# Altium footprint library multimodal.PcbLib: 69 footprints (part 4 of 5)
Each footprint in its own frame and in the unit in brackets; x right, y up, seen from the top. Pads: shape width x height; smd on the part's side, far side on the other; paste and mask are expansions set on the pad; w line width, h text height; cw(c..) or ccw(c..) is an arc to the next point about the centre after c.
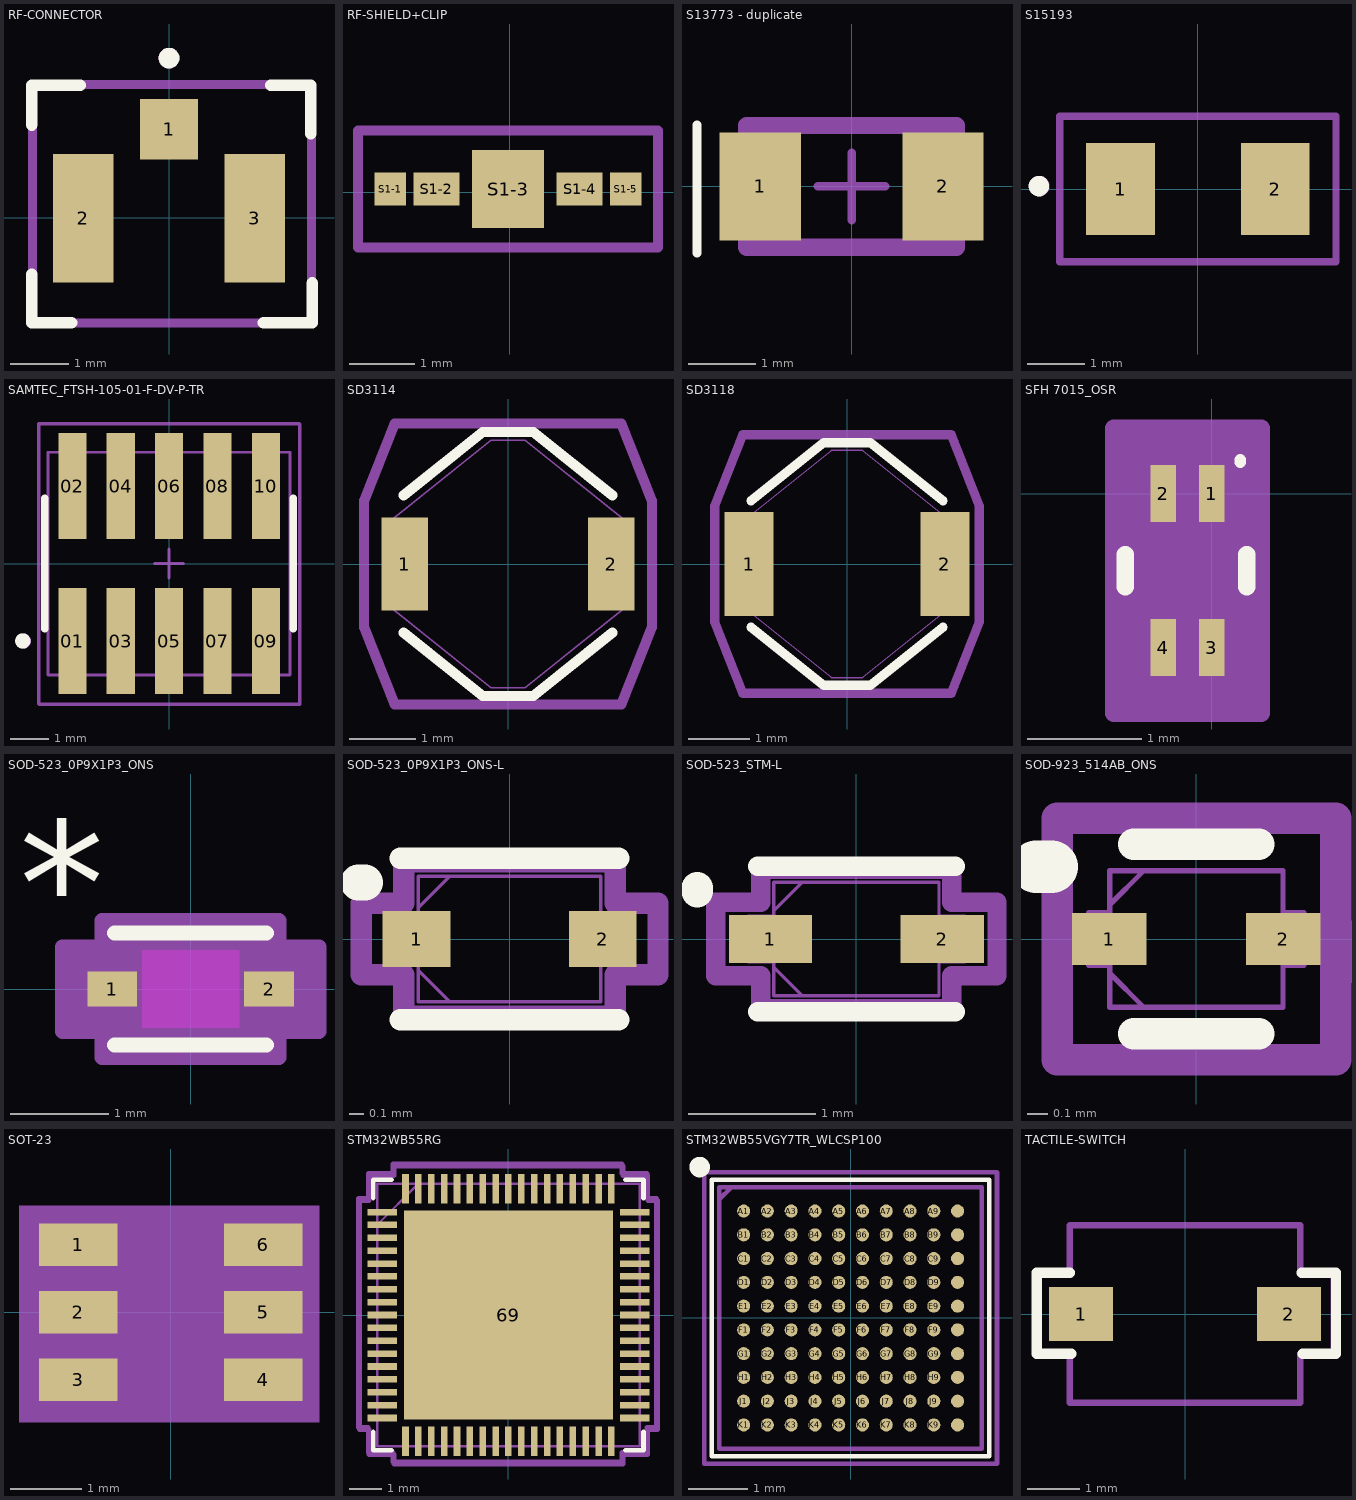
[diagram p3: the footprints below, top view; thin cyan lines are the x and y axes]

## RF-CONNECTOR [mil]
pads (3):
  rect 39x41 smd paste+0 mask+0: 1(0,60.02)
  rect 41x87 smd: 2(-58.07,-0.02) 3(58.07,-0.02)
Top Overlay:
  circle w10: c0,108.27 r2
  lines w7.87: -93,-38 -93,-71 -66,-71 ; -93,63 -93,90 -60,90 ; 64,-71 97,-71 97,-44 ; 69,90 96,90 96,57
Mechanical 13:
  circle w10: c0,108.27 r2
  lines w6: -92.52,-71 -92.52,90.52 96.46,90.52 96.46,-71 -92.52,-71
  text ".Designator" at -43,-7.85 h70
3D body "U.FL-R-SMT(10)--3DModel-STEP-56544.STEP": height 49.72, standoff 0.5, extent -59.05,-61.02 59.06,61.03

## RF-SHIELD+CLIP [mm]
pads (5):
  rect 0.483x0.508 smd paste+0 mask+0: S1-1(-1.835,0.05) S1-5(1.785,0.05)
  rect 0.711x0.508 smd: S1-2(-1.125,0.05) S1-4(1.075,0.05)
  rect 1.1x1.2 smd: S1-3(-0.025,0.05)
Mechanical 13:
  lines w0.152: -2.33,-0.852 2.28,-0.852 2.28,0.952 -2.33,0.952 -2.33,-0.852
  text ".Designator" at -1.185,-0.611 h2.03
3D body "s0951-46.stp": height 1.29, standoff 0.01, extent -1.975,-0.525 1.925,0.575

## S13773 - duplicate [mm] "SMD PIN Diode"
pads (2):
  rect 1.2x1.6 smd: 1(-1.35,0) 2(1.35,0)
Top Overlay:
  lines w0.127: -2.286,-0.991 -2.286,0.914
Mechanical 15:
  lines w0.127: -0.5,0 0.5,0 ; 0,-0.5 0,0.5
  lines w0.254: -1.55,-0.9 -1.55,0.9 1.55,0.9 1.55,-0.9 -1.55,-0.9
3D body: height 1.2, standoff 0, extent -1.65,-1 1.65,1

## S15193 [mm] "SMD PIN Diode"
pads (2):
  rect 1.2x1.6 smd: 1(-1.35,0) 2(1.35,0)
Top Overlay:
  circle w0.254: c-2.775,0.05 r0.051
Mechanical 15:
  circle w0.254: c-2.769,0.051 r0.051
  lines w0.127: -2.413,-1.27 -2.413,1.27 2.413,1.27 2.413,-1.27 -2.413,-1.27
  text ".Designator" at -0.889,-0.168 h1.27
3D body: height 1.2, standoff 0, extent -1.65,-1 1.65,1

## SAMTEC_FTSH-105-01-F-DV-P-TR [mm]
pads (10):
  rect 0.74x2.79 smd: 01(-2.54,-2.035) 02(-2.54,2.035) 03(-1.27,-2.035) 04(-1.27,2.035) 05(0,-2.035) 06(0,2.035) 07(1.27,-2.035) 08(1.27,2.035) 09(2.54,-2.035) 10(2.54,2.035)
Top Overlay:
  circle w0.2: c-3.84,-2.031 r0.1
  lines w0.2: -3.26,-1.715 -3.26,1.715 ; 3.26,-1.715 3.26,1.715
Top 3D Body:
  lines w0.076: -3.175,-2.921 3.175,-2.921 3.175,2.921 -3.175,2.921 -3.175,-2.921
Top Courtyard:
  lines w0.076: -0.381,0 0.381,0 ; 0,-0.381 0,0.381 ; -3.412,-3.704 -3.412,3.656 3.438,3.656 3.438,-3.704 -3.412,-3.704
Top Assembly:
  circle w0.2: c-3.825,-2.035 r0.1
  lines w0.076: -3.425,-3.68 -3.425,3.68 3.425,3.68 3.425,-3.68 -3.425,-3.68
  text ".Designator" at -2.287,-0.23 h1.02
Top Component Center:
  lines w0.076: -0.381,0 0.381,0 ; 0,-0.381 0,0.381
3D body "step_temp.STEP": height 6.1, standoff -0.03, extent -3.175,-2.921 3.175,2.921

## SD3114 [mm]
pads (2):
  rect 0.7x1.4 smd paste+0 mask+0: 1(-1.549,0) 2(1.549,0)
Top Overlay:
  lines w0.152: -1.566,-1.031 -0.381,-1.981 0.381,-1.981 1.566,-1.031 ; -1.566,1.031 -0.381,1.981 0.381,1.981 1.566,1.031
  text ".Designator" at -3.6,-0.725 h1.27
Mechanical 13:
  lines w0.025: -1.854,-0.572 -0.254,-1.854 0.254,-1.854 1.854,-0.572 1.854,0.572 0.254,1.854 -0.254,1.854 -1.854,0.572 -1.854,-0.572
  text ".Designator" at -3.65,-0.775 h1.27
Mechanical 15:
  lines w0.152: -2.159,-0.953 -2.159,0.953 -1.702,2.108 1.702,2.108 2.159,0.953 2.159,-0.953 1.702,-2.108 -1.702,-2.108 -2.159,-0.953
3D body "SD3114.step": height 1.7, standoff 0, extent -2.159,-1.854 2.159,1.854

## SD3118 [mm]
pads (2):
  rect 0.8x1.7 smd paste+0 mask+0: 1(-1.599,0) 2(1.599,0)
Top Overlay:
  lines w0.152: -1.566,-1.031 -0.381,-1.981 0.381,-1.981 1.566,-1.031 ; -1.566,1.031 -0.381,1.981 0.381,1.981 1.566,1.031
  text ".Designator" at -3.6,-0.725 h1.27
Mechanical 13:
  lines w0.025: -1.854,-0.572 -1.854,0.572 -0.254,1.854 0.254,1.854 1.854,0.572 1.854,-0.572 0.254,-1.854 -0.254,-1.854 -1.854,-0.572
  text ".Designator" at -3.65,-0.775 h1.27
Mechanical 15:
  lines w0.152: -2.159,-0.953 -1.702,-2.108 1.702,-2.108 2.159,-0.953 2.159,0.953 1.702,2.108 -1.702,2.108 -2.159,0.953 -2.159,-0.953

## SFH 7015_OSR [mm]
pads (4):
  rect 0.225x0.5 smd paste+0 mask+0.02: 1(0,0) 2(-0.425,0) 3(0,-1.35) 4(-0.425,-1.35)
Top Overlay:
  lines w0.1: 0.25,0.275 ccw(c-0.13,0.297) 0.251,0.297
  lines w0.152: -0.758,-0.817 -0.758,-0.533 ; 0.308,-0.817 0.308,-0.533
  text ".Designator" at -3.05,-2.275 h0.76
Mechanical 13:
  lines w0.025: -0.631,-1.678 0.181,-1.678 0.181,0.328 -0.631,0.328 ; -0.606,-1.678 -0.606,-1.177 -0.606,-0.173 -0.606,0.328
  lines w0.508: 0.25,0.3 ccw(c-0.131,0.318) 0.25,0.318
  text ".Designator" at -3.025,-2.3 h0.76
Mechanical 15:
  region: 0.435,0.582 -0.885,0.582 -0.885,-1.932 0.435,-1.932
  lines w0.152: -0.86,-1.925 0.435,-1.925 0.435,0.575 -0.86,0.575 -0.86,-1.925

## SOD-523_0P9X1P3_ONS [mil]
pads (2):
  rect 20x14 smd paste+0 mask+0: 1(-31.5,0) 2(31.5,0)
Top Layer keep-out:
  region: -19.5,-15.5 -19.5,15.5 19.5,15.5 19.5,-15.5
Top Overlay:
  lines w6: -30.5,-22.5 30.5,-22.5 ; -30.5,22.5 30.5,22.5
  text "*" at -68.9,17.72 h50
  text ".Designator" at -93.5,-91.54 h50
Keep-Out Layer:
  region: -19.5,-15.5 -19.5,15.5 19.5,15.5 19.5,-15.5
Mechanical 13:
  lines w1: -25.5,-8.75 -16.75,-17.5 ; -25.5,8.75 -16.75,17.5 ; -33.5,-7 -25.5,-7 -25.5,7 -33.5,7 -33.5,-7 ; -25.5,-17.5 -25.5,17.5 25.5,17.5 25.5,-17.5 -25.5,-17.5 ; 25.5,-7 33.5,-7 33.5,7 25.5,7 25.5,-7
  text ".Designator" at -74.8,-97.44 h50
  text "*" at -28,-25 h50
Mechanical 15:
  region: -35.5,-17 -51.5,-17 -51.5,17 -35.5,17 -35.5,27.5 35.5,27.5 35.5,17 51.5,17 51.5,-17 35.5,-17 35.5,-27.5 -35.5,-27.5
  lines w6: -51.5,-17 -35.5,-17 -35.5,-27.5 35.5,-27.5 35.5,-17 51.5,-17 51.5,17 35.5,17 35.5,27.5 -35.5,27.5 -35.5,17 -51.5,17 -51.5,-17
3D body "SOD-523_0P9X1P3_ONS.step": height 18.27, standoff 0, extent -33.5,-17.48 33.5,17.48

## SOD-523_0P9X1P3_ONS-L [mm]
pads (2):
  rect 0.48x0.4 smd paste+0 mask+0: 1(-0.66,0) 2(0.66,0)
Top Overlay:
  lines w0.152: -0.775,-0.572 0.775,-0.572 ; -0.775,0.572 0.775,0.572
  lines w0.254: -1.075,0.4 -1.025,0.4
  text ".Designator" at -2.225,-1.4 h0.76
Mechanical 13:
  lines w0.025: -0.648,-0.222 -0.425,-0.445 ; -0.648,0.222 -0.425,0.445 ; -0.851,-0.178 -0.648,-0.178 -0.648,0.178 -0.851,0.178 -0.851,-0.178 ; -0.648,-0.445 -0.648,0.445 0.648,0.445 0.648,-0.445 -0.648,-0.445 ; 0.648,-0.178 0.851,-0.178 0.851,0.178 0.648,0.178 0.648,-0.178
  text ".Designator" at -2.2,-0.925 h0.76
  text "*" at -0.975,-0.625 h1.27
Mechanical 15:
  lines w0.152: -1.052,-0.254 -0.749,-0.254 -0.749,-0.546 0.749,-0.546 0.749,-0.254 1.052,-0.254 1.052,0.254 0.749,0.254 0.749,0.546 -0.749,0.546 -0.749,0.254 -1.052,0.254 -1.052,-0.254

## SOD-523_STM-L [mm]
pads (2):
  rect 0.654x0.376 smd paste+0 mask+0: 1(-0.674,0) 2(0.674,0)
Top Overlay:
  lines w0.152: -0.775,-0.572 0.775,-0.572 ; -0.775,0.572 0.775,0.572
  lines w0.254: -1.25,0.375 -1.25,0.4
  text ".Designator" at -3.25,-1.625 h0.76
Mechanical 13:
  lines w0.025: -0.648,-0.222 -0.425,-0.445 ; -0.648,0.222 -0.425,0.445 ; -0.851,-0.178 -0.851,0.178 -0.648,0.178 -0.648,-0.178 -0.851,-0.178 ; -0.648,-0.445 0.648,-0.445 0.648,0.445 -0.648,0.445 -0.648,-0.445 ; 0.648,-0.178 0.648,0.178 0.851,0.178 0.851,-0.178 0.648,-0.178
  text ".Designator" at -3.2,-1.575 h0.76
Mechanical 15:
  lines w0.152: -1.102,-0.289 -1.102,0.289 -0.749,0.289 -0.749,0.546 0.749,0.546 0.749,0.289 1.102,0.289 1.102,-0.289 0.749,-0.289 0.749,-0.546 -0.749,-0.546 -0.749,-0.289 -1.102,-0.289

## SOD-923_514AB_ONS [mm]
pads (2):
  rect 0.36x0.25 smd paste+0 mask+0: 1(-0.42,0) 2(0.42,0)
Top Overlay:
  lines w0.152: -0.302,-0.457 0.302,-0.457 ; -0.302,0.457 0.302,0.457
  lines w0.254: -0.775,0.35 -0.7,0.35
  text ".Designator" at -2.625,-1.275 h0.76
Mechanical 13:
  lines w0.025: -0.419,-0.165 -0.254,-0.33 ; -0.419,0.165 -0.254,0.33 ; -0.521,-0.127 -0.521,0.127 -0.419,0.127 -0.419,-0.127 -0.521,-0.127 ; -0.419,-0.33 0.419,-0.33 0.419,0.33 -0.419,0.33 -0.419,-0.33 ; 0.419,-0.127 0.419,0.127 0.521,0.127 0.521,-0.127 0.419,-0.127
  text ".Designator" at -2.55,-1.325 h0.76
Mechanical 15:
  lines w0.152: 0.673,-0.191 0.673,-0.381 0.673,-0.584 -0.673,-0.584 -0.673,-0.381 -0.673,0.381 -0.673,0.584 0.673,0.584 0.673,0.381 0.675,-0.2

## SOT-23 [mm]
pads (6):
  rect 1.1x0.6 smd mask+0.07: 1(-1.3,0.95) 2(-1.3,0) 3(-1.3,-0.95) 4(1.3,-0.95) 5(1.3,0) 6(1.3,0.95)
Mechanical 15:
  region: 2.083,-1.549 -2.134,-1.549 -2.134,1.499 2.083,1.499
3D body "SOT23-6L_STM.step": height 1.45, standoff 0, extent -1.499,-1.549 1.499,1.499

## STM32WB55RG [mm] "Ultra-low-power dual core Arm Cortex-M4 MCU 64 MHz, Cortex-M0+ 32 MHz with 1 Mbyte of Flash memory, Bluetooth LE 5.4, 802.15.4, Zigbee, Thread, Matter, USB, LCD, AES-256"
pads (69):
  rect 0.91x0.204 smd paste+0 mask+0.02: 1(-3.922,3.2) 2(-3.922,2.8) 3(-3.922,2.4) 4(-3.922,2) 5(-3.922,1.6) 6(-3.922,1.2) 7(-3.922,0.8) 8(-3.922,0.4) 9(-3.922,0) 10(-3.922,-0.4) 11(-3.922,-0.8) 12(-3.922,-1.2) 13(-3.922,-1.6) 14(-3.922,-2) 15(-3.922,-2.4) 16(-3.922,-2.8) 17(-3.922,-3.2) 35(3.922,-3.2) 36(3.922,-2.8) 37(3.922,-2.4) 38(3.922,-2) 39(3.922,-1.6) 40(3.922,-1.2) 41(3.922,-0.8) 42(3.922,-0.4) 43(3.922,0) 44(3.922,0.4) 45(3.922,0.8) 46(3.922,1.2) 47(3.922,1.6) 48(3.922,2) 49(3.922,2.4) 50(3.922,2.8) 51(3.922,3.2)
  rect 0.204x0.91 smd paste+0 mask+0.02: 18(-3.2,-3.922) 19(-2.8,-3.922) 20(-2.4,-3.922) 21(-2,-3.922) 22(-1.6,-3.922) 23(-1.2,-3.922) 24(-0.8,-3.922) 25(-0.4,-3.922) 26(0,-3.922) 27(0.4,-3.922) 28(0.8,-3.922) 29(1.2,-3.922) 30(1.6,-3.922) 31(2,-3.922) 32(2.4,-3.922) 33(2.8,-3.922) 34(3.2,-3.922) 52(3.2,3.922) 53(2.8,3.922) 54(2.4,3.922) 55(2,3.922) 56(1.6,3.922) 57(1.2,3.922) 58(0.8,3.922) 59(0.4,3.922) 60(0,3.922) 61(-0.4,3.922) 62(-0.8,3.922) 63(-1.2,3.922) 64(-1.6,3.922) 65(-2,3.922) 66(-2.4,3.922) 67(-2.8,3.922) 68(-3.2,3.922)
  rect 6.502x6.502 smd paste-3.251 mask+0.02: 69(0,0)
Top Overlay:
  lines w0.152: -4.204,-3.635 -4.204,-4.204 -3.635,-4.204 ; -4.204,3.635 -4.204,4.204 -3.635,4.204 ; 3.635,-4.204 4.204,-4.204 4.204,-3.635 ; 3.635,4.204 4.204,4.204 4.204,3.635
Top Paste:
  region: 3.151,-2.051 2.051,-2.051 2.051,-3.151 3.151,-3.151
  region: 3.151,-0.75 2.051,-0.75 2.051,-1.851 3.151,-1.851
  region: 3.151,0.55 2.051,0.55 2.051,-0.55 3.151,-0.55
  region: 3.151,1.851 2.051,1.851 2.051,0.75 3.151,0.75
  region: 3.151,3.151 2.051,3.151 2.051,2.051 3.151,2.051
  region: 1.851,-2.051 0.75,-2.051 0.75,-3.151 1.851,-3.151
  region: 1.851,-0.75 0.75,-0.75 0.75,-1.851 1.851,-1.851
  region: 1.851,0.55 0.75,0.55 0.75,-0.55 1.851,-0.55
  region: 1.851,1.851 0.75,1.851 0.75,0.75 1.851,0.75
  region: 1.851,3.151 0.75,3.151 0.75,2.051 1.851,2.051
  region: 0.55,-2.051 -0.55,-2.051 -0.55,-3.151 0.55,-3.151
  region: 0.55,-0.75 -0.55,-0.75 -0.55,-1.851 0.55,-1.851
  region: 0.55,0.55 -0.55,0.55 -0.55,-0.55 0.55,-0.55
  region: 0.55,1.851 -0.55,1.851 -0.55,0.75 0.55,0.75
  region: 0.55,3.151 -0.55,3.151 -0.55,2.051 0.55,2.051
  region: -0.75,-2.051 -1.851,-2.051 -1.851,-3.151 -0.75,-3.151
  region: -0.75,-0.75 -1.851,-0.75 -1.851,-1.851 -0.75,-1.851
  region: -0.75,0.55 -1.851,0.55 -1.851,-0.55 -0.75,-0.55
  region: -0.75,1.851 -1.851,1.851 -1.851,0.75 -0.75,0.75
  region: -0.75,3.151 -1.851,3.151 -1.851,2.051 -0.75,2.051
  region: -2.051,-2.051 -3.151,-2.051 -3.151,-3.151 -2.051,-3.151
  region: -2.051,-0.75 -3.151,-0.75 -3.151,-1.851 -2.051,-1.851
  region: -2.051,0.55 -3.151,0.55 -3.151,-0.55 -2.051,-0.55
  region: -2.051,1.851 -3.151,1.851 -3.151,0.75 -2.051,0.75
  region: -2.051,3.151 -3.151,3.151 -3.151,2.051 -2.051,2.051
Top 3D Body:
  lines w0.076: -4.077,2.807 -2.807,4.077 ; -4.077,-4.077 -4.077,4.077 4.077,4.077 4.077,-4.077 -4.077,-4.077 ; -4.077,-3.327 -4.077,-3.073 -4.077,-3.327 ; -4.077,-2.927 -4.077,-2.673 -4.077,-2.927 ; -4.077,-2.527 -4.077,-2.273 -4.077,-2.527 ; -4.077,-2.127 -4.077,-1.873 -4.077,-2.127 ; -4.077,-1.727 -4.077,-1.473 -4.077,-1.727 ; -4.077,-1.327 -4.077,-1.073 -4.077,-1.327 ; -4.077,-0.927 -4.077,-0.673 -4.077,-0.927 ; -4.077,-0.527 -4.077,-0.273 -4.077,-0.527 ; -4.077,-0.127 -4.077,0.127 -4.077,-0.127 ; -4.077,0.273 -4.077,0.527 -4.077,0.273 ; -4.077,0.673 -4.077,0.927 -4.077,0.673 ; -4.077,1.073 -4.077,1.327 -4.077,1.073 ; -4.077,1.473 -4.077,1.727 -4.077,1.473 ; -4.077,1.873 -4.077,2.127 -4.077,1.873 ; -4.077,2.273 -4.077,2.527 -4.077,2.273 ; -4.077,2.673 -4.077,2.927 -4.077,2.673 ; -4.077,3.073 -4.077,3.327 -4.077,3.073 ; -3.327,-4.077 -3.073,-4.077 -3.327,-4.077 ; -3.327,4.077 -3.073,4.077 -3.327,4.077 ; -2.927,-4.077 -2.673,-4.077 -2.927,-4.077 ; -2.927,4.077 -2.673,4.077 -2.927,4.077 ; -2.527,-4.077 -2.273,-4.077 -2.527,-4.077 ; -2.527,4.077 -2.273,4.077 -2.527,4.077 ; -2.127,-4.077 -1.873,-4.077 -2.127,-4.077 ; -2.127,4.077 -1.873,4.077 -2.127,4.077 ; -1.727,-4.077 -1.473,-4.077 -1.727,-4.077 ; -1.727,4.077 -1.473,4.077 -1.727,4.077 ; -1.327,-4.077 -1.073,-4.077 -1.327,-4.077 ; -1.327,4.077 -1.073,4.077 -1.327,4.077 ; -0.927,-4.077 -0.673,-4.077 -0.927,-4.077 ; -0.927,4.077 -0.673,4.077 -0.927,4.077 ; -0.527,-4.077 -0.273,-4.077 -0.527,-4.077 ; -0.527,4.077 -0.273,4.077 -0.527,4.077 ; -0.127,-4.077 0.127,-4.077 -0.127,-4.077 ; -0.127,4.077 0.127,4.077 -0.127,4.077 ; 0.273,-4.077 0.527,-4.077 0.273,-4.077 ; 0.273,4.077 0.527,4.077 0.273,4.077 ; 0.673,-4.077 0.927,-4.077 0.673,-4.077 ; 0.673,4.077 0.927,4.077 0.673,4.077 ; 1.073,-4.077 1.327,-4.077 1.073,-4.077 ; 1.073,4.077 1.327,4.077 1.073,4.077 ; 1.473,-4.077 1.727,-4.077 1.473,-4.077 ; 1.473,4.077 1.727,4.077 1.473,4.077 ; 1.873,-4.077 2.127,-4.077 1.873,-4.077 ; 1.873,4.077 2.127,4.077 1.873,4.077 ; 2.273,-4.077 2.527,-4.077 2.273,-4.077 ; 2.273,4.077 2.527,4.077 2.273,4.077 ; 2.673,-4.077 2.927,-4.077 2.673,-4.077 ; 2.673,4.077 2.927,4.077 2.673,4.077 ; 3.073,-4.077 3.327,-4.077 3.073,-4.077 ; 3.073,4.077 3.327,4.077 3.073,4.077 ; 4.077,-3.327 4.077,-3.073 4.077,-3.327 ; 4.077,-2.927 4.077,-2.673 4.077,-2.927 ; 4.077,-2.527 4.077,-2.273 4.077,-2.527 ; 4.077,-2.127 4.077,-1.873 4.077,-2.127 ; 4.077,-1.727 4.077,-1.473 4.077,-1.727 ; 4.077,-1.327 4.077,-1.073 4.077,-1.327 ; 4.077,-0.927 4.077,-0.673 4.077,-0.927 ; 4.077,-0.527 4.077,-0.273 4.077,-0.527 ; 4.077,-0.127 4.077,0.127 4.077,-0.127 ; 4.077,0.273 4.077,0.527 4.077,0.273 ; 4.077,0.673 4.077,0.927 4.077,0.673 ; 4.077,1.073 4.077,1.327 4.077,1.073 ; 4.077,1.473 4.077,1.727 4.077,1.473 ; 4.077,1.873 4.077,2.127 4.077,1.873 ; 4.077,2.273 4.077,2.527 4.077,2.273 ; 4.077,2.673 4.077,2.927 4.077,2.673 ; 4.077,3.073 4.077,3.327 4.077,3.073
Top Courtyard:
  lines w0.152: -4.659,-3.493 -4.659,3.619 -4.359,3.619 -4.359,4.394 -3.584,4.394 -3.584,4.694 3.528,4.694 3.528,4.394 4.303,4.394 4.303,3.619 4.603,3.619 4.603,-3.493 4.303,-3.493 4.303,-4.267 3.528,-4.267 3.528,-4.567 -3.584,-4.567 -3.584,-4.267 -4.359,-4.267 -4.359,-3.493 -4.659,-3.493
Top Assembly:
  lines w0.152: -4.631,-3.556 -4.631,3.556 -4.331,3.556 -4.331,4.331 -3.556,4.331 -3.556,4.631 3.556,4.631 3.556,4.331 4.331,4.331 4.331,3.556 4.631,3.556 4.631,-3.556 4.331,-3.556 4.331,-4.331 3.556,-4.331 3.556,-4.631 -3.556,-4.631 -3.556,-4.331 -4.331,-4.331 -4.331,-3.556 -4.631,-3.556
  text ".Designator" at -3.425,-0.344 h1.52
Top Designator:
  text ".Designator" at -3.425,-0.344 h1.52
3D body "VFQFN68-8x8mm.step": height 0.99, standoff 0, extent -4.079,-4.075 4.075,4.079

## STM32WB55VGY7TR_WLCSP100 [mm]
pads (100):
  round 0.22 smd paste+0 mask+0.038: A1(-1.8,1.8) A2(-1.4,1.8) A3(-1,1.8) A4(-0.6,1.8) A5(-0.2,1.8) A6(0.2,1.8) A7(0.6,1.8) A8(1,1.8) A9(1.4,1.8) A10(1.8,1.8) B1(-1.8,1.4) B2(-1.4,1.4) B3(-1,1.4) B4(-0.6,1.4) B5(-0.2,1.4) B6(0.2,1.4) B7(0.6,1.4) B8(1,1.4) B9(1.4,1.4) B10(1.8,1.4) C1(-1.8,1) C2(-1.4,1) C3(-1,1) C4(-0.6,1) C5(-0.2,1) C6(0.2,1) C7(0.6,1) C8(1,1) C9(1.4,1) C10(1.8,1) D1(-1.8,0.6) D2(-1.4,0.6) D3(-1,0.6) D4(-0.6,0.6) D5(-0.2,0.6) D6(0.2,0.6) D7(0.6,0.6) D8(1,0.6) D9(1.4,0.6) D10(1.8,0.6) E1(-1.8,0.2) E2(-1.4,0.2) E3(-1,0.2) E4(-0.6,0.2) E5(-0.2,0.2) E6(0.2,0.2) E7(0.6,0.2) E8(1,0.2) E9(1.4,0.2) E10(1.8,0.2) F1(-1.8,-0.2) F2(-1.4,-0.2) F3(-1,-0.2) F4(-0.6,-0.2) F5(-0.2,-0.2) F6(0.2,-0.2) F7(0.6,-0.2) F8(1,-0.2) F9(1.4,-0.2) F10(1.8,-0.2) G1(-1.8,-0.6) G2(-1.4,-0.6) G3(-1,-0.6) G4(-0.6,-0.6) G5(-0.2,-0.6) G6(0.2,-0.6) G7(0.6,-0.6) G8(1,-0.6) G9(1.4,-0.6) G10(1.8,-0.6) H1(-1.8,-1) H2(-1.4,-1) H3(-1,-1) H4(-0.6,-1) H5(-0.2,-1) H6(0.2,-1) H7(0.6,-1) H8(1,-1) H9(1.4,-1) H10(1.8,-1) J1(-1.8,-1.4) J2(-1.4,-1.4) J3(-1,-1.4) J4(-0.6,-1.4) J5(-0.2,-1.4) J6(0.2,-1.4) J7(0.6,-1.4) J8(1,-1.4) J9(1.4,-1.4) J10(1.8,-1.4) K1(-1.8,-1.8) K2(-1.4,-1.8) K3(-1,-1.8) K4(-0.6,-1.8) K5(-0.2,-1.8) K6(0.2,-1.8) K7(0.6,-1.8) K8(1,-1.8) K9(1.4,-1.8) K10(1.8,-1.8)
Top Overlay:
  circle w0.254: c-2.54,2.54 r0.045
  lines w0.076: -2.337,-2.324 -2.337,2.324 2.337,2.324 2.337,-2.324 -2.337,-2.324
Top 3D Body:
  lines w0.076: -2.21,1.997 -2.01,2.197 ; -2.21,-2.197 -2.21,2.197 2.21,2.197 2.21,-2.197 -2.21,-2.197
Top Courtyard:
  lines w0.076: -2.464,-2.451 2.464,-2.451 2.464,2.451 -2.464,2.451 -2.464,-2.451
Top Assembly:
  lines w0.076: -2.464,-2.451 2.464,-2.451 2.464,2.451 -2.464,2.451 -2.464,-2.451
  text ".Designator" at -3.434,-0.631 h1.52
Top Designator:
  text ".Designator" at -3.434,-0.631 h1.52
3D body "WLCSP100.step": height 0.59, standoff 0, extent -2.21,-2.197 2.21,2.197

## TACTILE-SWITCH [mil]
pads (2):
  rect 48x41 smd paste+0: 1(-78.5,0) 2(78.5,0)
Top Overlay:
  lines w7.87: -87,31 -112,31 -112,-29 -112,-30 -86,-30 ; 88,31 114,31 114,30 114,-30 89,-30
Mechanical 13:
  lines w5: -112.5,-30.5 -112.5,30.5 -87,30.5 -87,67 87,67 87,30.5 112.5,30.5 112.5,-30.5 87,-30.5 87,-67 -87,-67 -87,-30.5 -112.5,-30.5
  text ".Designator" at -58,-4.62 h50
3D body "TL1015AFxxxQG (1).stp": height 79.24, standoff 0.5, extent -88.58,-57.18 88.59,57